# Altium integrated library LIS3DSH.IntLib: 1 symbol
Pins are listed as number, name and electrical type; pins without a type are passive.

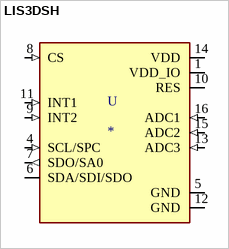
[diagram p0: symbol LIS3DSH]

## LIS3DSH
designator U
Accelerometer X, Y, Z Axis Â±2g, 4g, 6g, 8g, 16g 1.56Hz ~ 800Hz 16-LGA _3x3_; MF: STMicroelectronics; MP: LIS3DSH; Availability: Unavailable; Value: *; Package: LGA-16 STMicroelectronics; Price: None; SnapEDA_Link: https://www.snapeda.com/parts/LIS3DSH/STMicroelectronics/view-part/422648/?ref=snap
footprint LGA16R50P5X3_300X300X100N
pins: 1 VDD_IO (power), 4 SCL/SPC (in), 5 GND (power), 6 SDA/SDI/SDO (io), 7 SDO/SA0 (out), 8 CS (in), 9 INT2 (in), 10 RES (power), 11 INT1 (in), 12 GND (power), 13 ADC3 (in), 14 VDD (power), 15 ADC2 (in), 16 ADC1 (in)